# EAGLE library part 52892-0895 (library Molex_By_element14_Batch_1)
CONNECTOR, FPC, ZIF, 0.50MM, 08 WAY
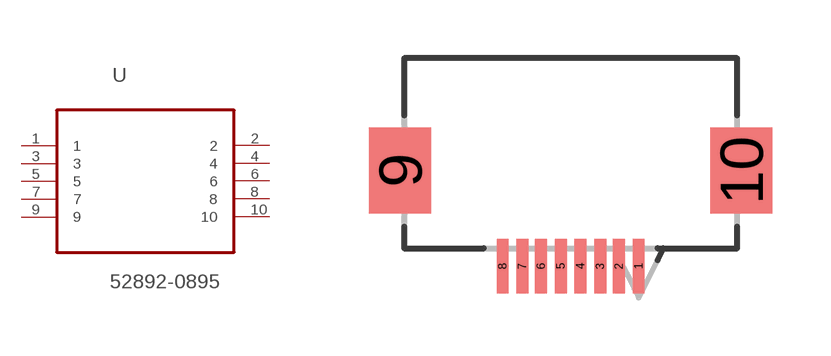
[diagram p26: symbol with the pads of MOLEX_52892-0895; footprint MOLEX_52892-0895]

Designator prefix U

## 52892-0895 (MPN: 52892-0895; OC_FARNELL: 1556803; OC_NEWARK: 95M2692; PACKAGE: CONNECTOR, FPC, ZIF, 0.50MM, 08 WAY; SUPPLIER: Molex)  [MOLEX_52892-0895]
1  1  pas
2  2  pas
3  3  pas
4  4  pas
5  5  pas
6  6  pas
7  7  pas
8  8  pas
9  9  pas
10  10  pas

## Footprint MOLEX_52892-0895 (pad centres in mm)
smd 0.305 x 1.397: 1 1.753,2.896; 2 1.245,2.896; 3 0.762,2.896; 4 0.254,2.896; 5 -0.254,2.896; 6 -0.762,2.896; 7 -1.245,2.896; 8 -1.753,2.896
smd 1.6 x 2.21: 9 -4.394,5.359; 10 4.394,5.359